# Altium footprint library POTB.PcbLib: 1 footprints
Each footprint in its own frame and in the unit in brackets; x right, y up, seen from the top. Pads: shape width x height; smd on the part's side, far side on the other; paste and mask are expansions set on the pad; w line width, h text height; cw(c..) or ccw(c..) is an arc to the next point about the centre after c.
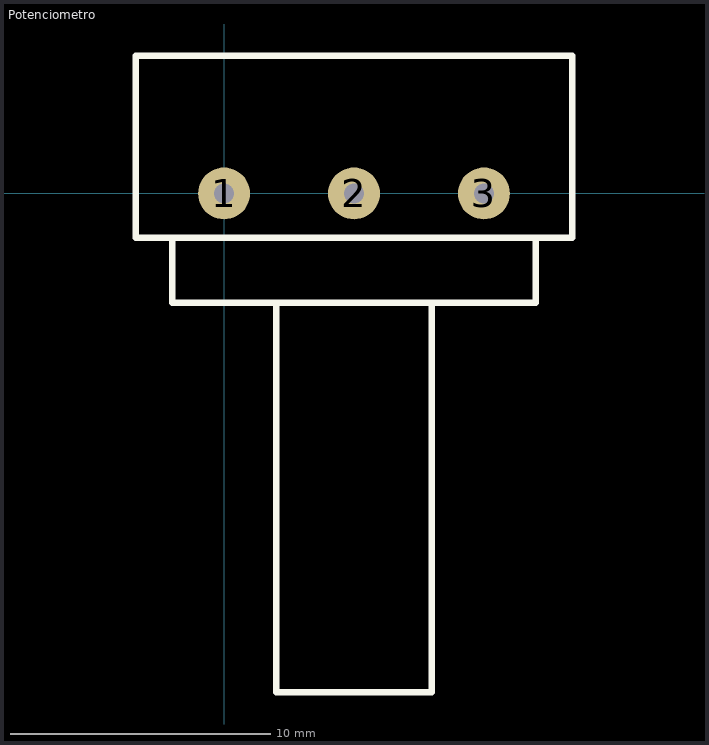
[diagram p0: the footprint, top view; thin cyan lines are the x and y axes]

## Potenciometro [mm]
pads (3):
  round 2 hole 0.762: 1(0,0) 2(5,0) 3(10,0)
Top Overlay:
  lines w0.254: -2,-1.7 -2,-4.2 4.8,-4.2 12,-4.2 12,-1.7 ; 2,-4.2 2,-19.2 8,-19.2 8,-4.8 8,-4.2 ; -3.4,-1.7 -3.4,-1.4 -3.4,5.3 13.4,5.3 13.4,-1.4 13.4,-1.7 5,-1.7 -3.4,-1.7